# EAGLE library part U-TS393-DUAL-COMPARATOR (library eagle-library-engr-245-s22)
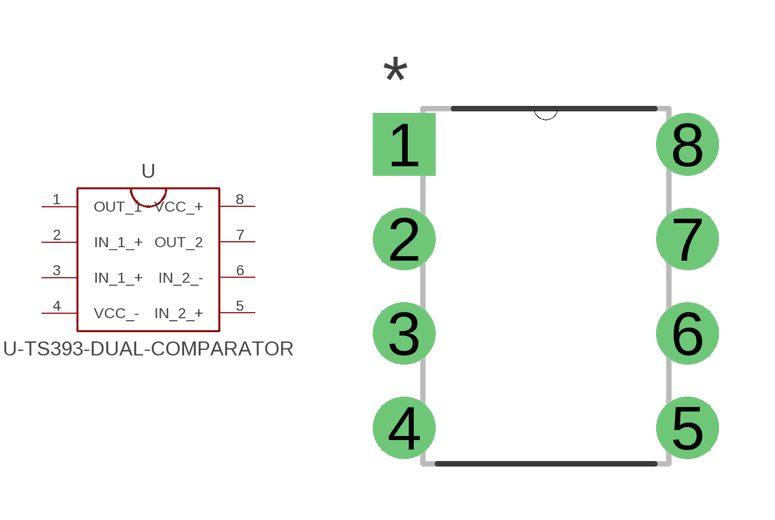
[diagram p23: symbol with the pads of DIP-8; footprint DIP-8]

Designator prefix U

## U-TS393-DUAL-COMPARATOR  [DIP-8]
1  OUT_1
2  IN_1_+
3  IN_1_+
4  VCC_-
5  IN_2_+
6  IN_2_-
7  OUT_2
8  VCC_+

## Footprint DIP-8 (pad centres in mm)
drill 1.118 square: 1 0,0
drill 1.118: 2 0,-2.54; 3 0,-5.08; 4 0,-7.62; 5 7.62,-7.62; 6 7.62,-5.08; 7 7.62,-2.54; 8 7.62,0